# EAGLE library part MAX962 (library be_opamp_comparator)
drawn: Mario Blunk
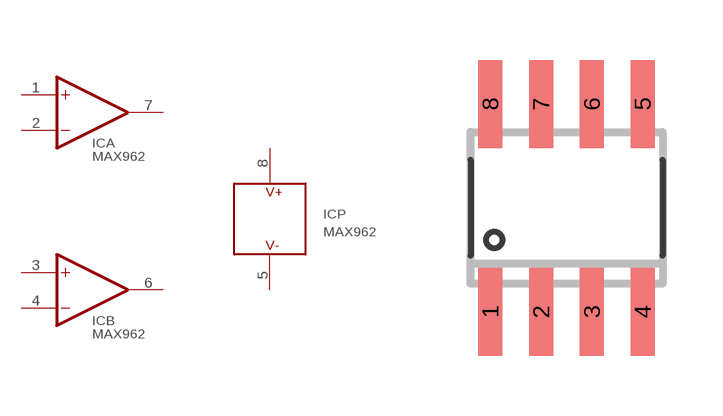
[diagram p0: symbol with the pads of S_SO8; footprint S_SO8]

Designator prefix IC; gates A=OP B=OP P=PWR

## MAX962ESA (BOM: YES; COMMISSIONED: 2015-02-05; PART_CODE_BEL: IC_PAC_S_SO8_VAL_MAX962ESA; UPDATED: 2018-05-31)  [S_SO8]
1  A:+IN  in
2  A:-IN  in
3  B:+IN  in
4  B:-IN  in
5  P:V-  pwr
6  B:OUT  out
7  A:OUT  out
8  P:V+  pwr

## Footprint S_SO8 (pad centres in mm)
edited: Mario Blunk date: 2014-11-20
smd 0.6 x 2.2: 1 -1.905,-2.6; 2 -0.635,-2.6; 3 0.635,-2.6; 4 1.905,-2.6; 5 1.905,2.6; 6 0.635,2.6; 7 -0.635,2.6; 8 -1.905,2.6